# Altium schematic symbol library lib_peb_1.SchLib: 27 symbols
Pins are listed as number, name and electrical type; pins without a type are passive.

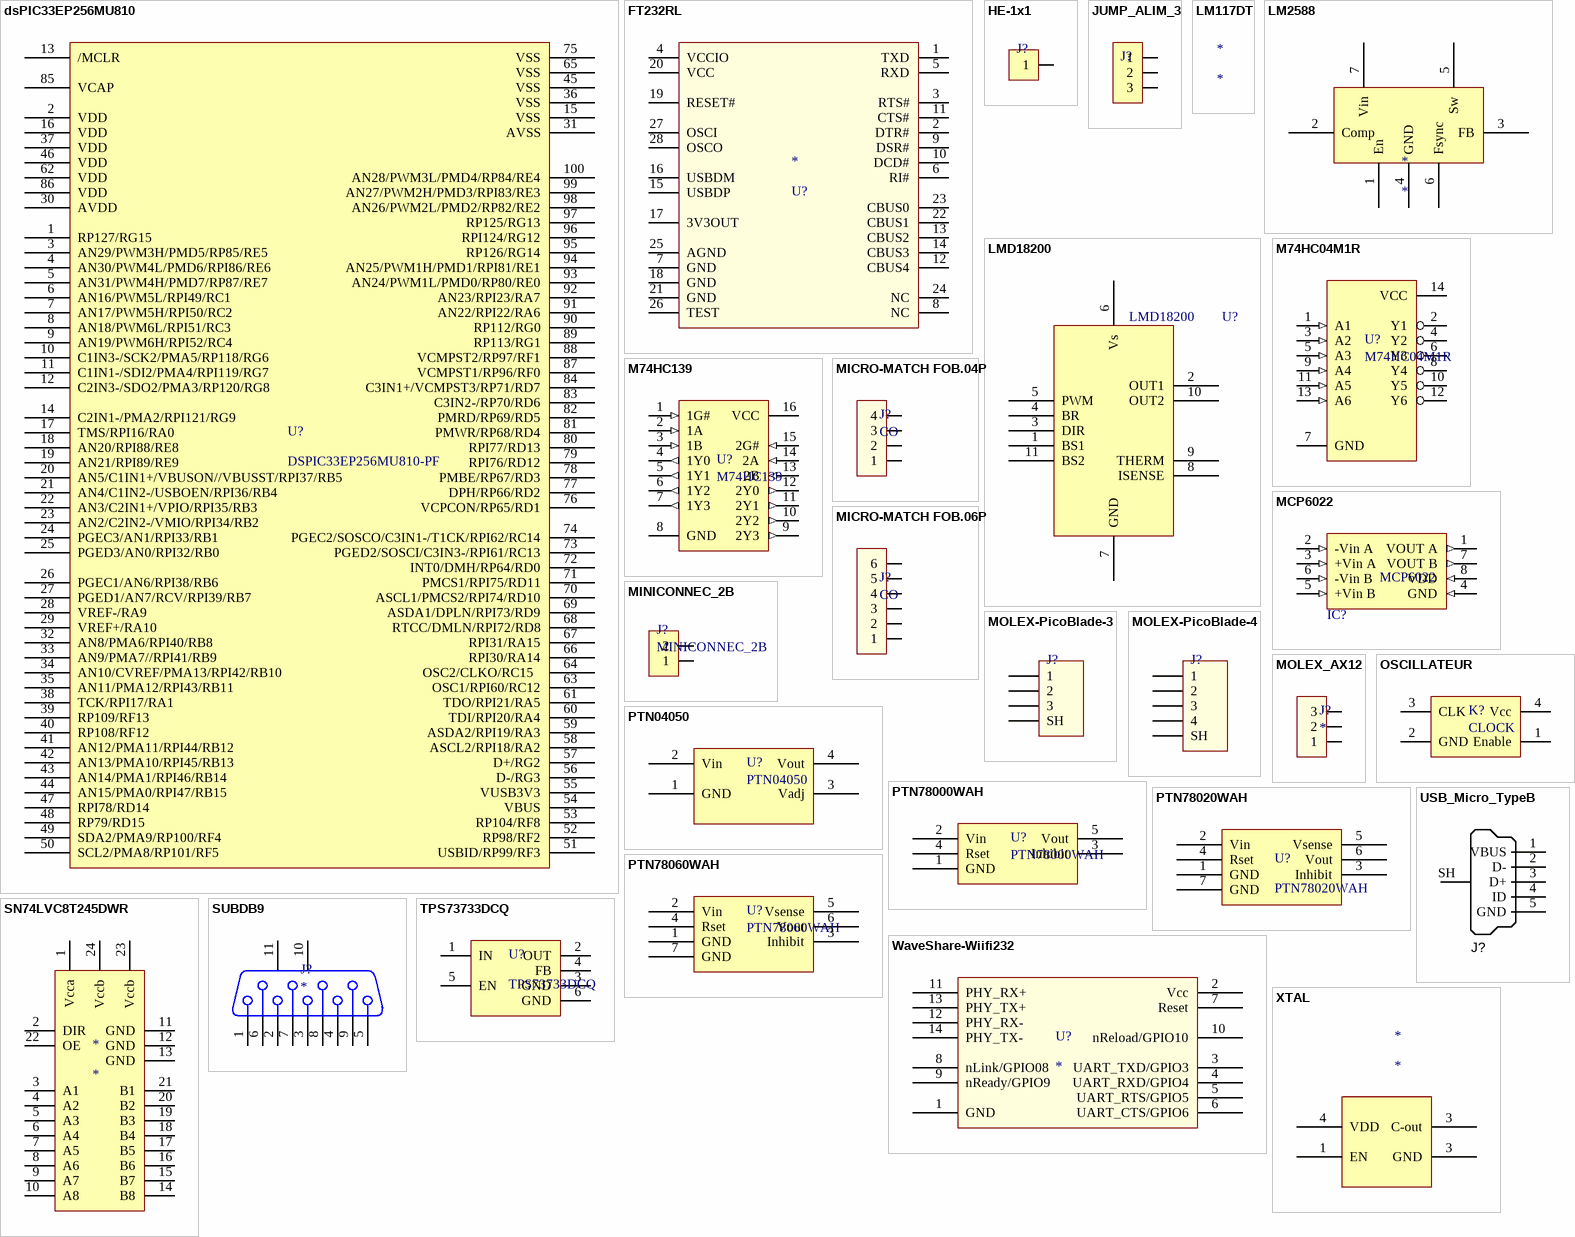
[diagram p0: symbols dsPIC33EP256MU810 to XTAL]

## dsPIC33EP256MU810
designator U?, comment DSPIC33EP256MU810-PF
PF = TQFP100_N
footprint TQFP100_N (100-Pin Thin Quad Flat Pack 0.5 mm Pitch, IPC Medium Density)
pins: 1 RP127/RG15, 2 VDD, 3 AN29/PWM3H/PMD5/RP85/RE5, 4 AN30/PWM4L/PMD6/RPI86/RE6, 5 AN31/PWM4H/PMD7/RP87/RE7, 6 AN16/PWM5L/RPI49/RC1, 7 AN17/PWM5H/RPI50/RC2, 8 AN18/PWM6L/RPI51/RC3, 9 AN19/PWM6H/RPI52/RC4, 10 C1IN3-/SCK2/PMA5/RP118/RG6, 11 C1IN1-/SDI2/PMA4/RPI119/RG7, 12 C2IN3-/SDO2/PMA3/RP120/RG8, 13 /MCLR, 14 C2IN1-/PMA2/RPI121/RG9, 15 VSS, 16 VDD, 17 TMS/RPI16/RA0, 18 AN20/RPI88/RE8, 19 AN21/RPI89/RE9, 20 AN5/C1IN1+/VBUSON//VBUSST/RPI37/RB5, 21 AN4/C1IN2-/USBOEN/RPI36/RB4, 22 AN3/C2IN1+/VPIO/RPI35/RB3, 23 AN2/C2IN2-/VMIO/RPI34/RB2, 24 PGEC3/AN1/RPI33/RB1, 25 PGED3/AN0/RPI32/RB0, 26 PGEC1/AN6/RPI38/RB6, 27 PGED1/AN7/RCV/RPI39/RB7, 28 VREF-/RA9, 29 VREF+/RA10, 30 AVDD, 31 AVSS, 32 AN8/PMA6/RPI40/RB8, 33 AN9/PMA7//RPI41/RB9, 34 AN10/CVREF/PMA13/RPI42/RB10, 35 AN11/PMA12/RPI43/RB11, 36 VSS, 37 VDD, 38 TCK/RPI17/RA1, 39 RP109/RF13, 40 RP108/RF12, 41 AN12/PMA11/RPI44/RB12, 42 AN13/PMA10/RPI45/RB13, 43 AN14/PMA1/RPI46/RB14, 44 AN15/PMA0/RPI47/RB15, 45 VSS, 46 VDD, 47 RPI78/RD14, 48 RP79/RD15, 49 SDA2/PMA9/RP100/RF4, 50 SCL2/PMA8/RP101/RF5, 51 USBID/RP99/RF3, 52 RP98/RF2, 53 RP104/RF8, 54 VBUS, 55 VUSB3V3, 56 D-/RG3, 57 D+/RG2, 58 ASCL2/RPI18/RA2, 59 ASDA2/RPI19/RA3, 60 TDI/RPI20/RA4, 61 TDO/RPI21/RA5, 62 VDD, 63 OSC1/RPI60/RC12, 64 OSC2/CLKO/RC15  , 65 VSS, 66 RPI30/RA14, 67 RPI31/RA15, 68 RTCC/DMLN/RPI72/RD8, 69 ASDA1/DPLN/RPI73/RD9, 70 ASCL1/PMCS2/RPI74/RD10, 71 PMCS1/RPI75/RD11, 72 INT0/DMH/RP64/RD0, 73 PGED2/SOSCI/C3IN3-/RPI61/RC13, 74 PGEC2/SOSCO/C3IN1-/T1CK/RPI62/RC14, 75 VSS, 76 VCPCON/RP65/RD1, 77 DPH/RP66/RD2, 78 PMBE/RP67/RD3, 79 RPI76/RD12, 80 RPI77/RD13, 81 PMWR/RP68/RD4, 82 PMRD/RP69/RD5, 83 C3IN2-/RP70/RD6, 84 C3IN1+/VCMPST3/RP71/RD7, 85 VCAP, 86 VDD, 87 VCMPST1/RP96/RF0, 88 VCMPST2/RP97/RF1, 89 RP113/RG1, 90 RP112/RG0, 91 AN22/RPI22/RA6, 92 AN23/RPI23/RA7, 93 AN24/PWM1L/PMD0/RP80/RE0, 94 AN25/PWM1H/PMD1/RPI81/RE1, 95 RP126/RG14, 96 RPI124/RG12, 97 RP125/RG13, 98 AN26/PWM2L/PMD2/RP82/RE2, 99 AN27/PWM2H/PMD3/RPI83/RE3, 100 AN28/PWM3L/PMD4/RP84/RE4

## FT232RL
designator *, comment U?
FTDI 232 RL
footprint SSOP28_L (SOP, 28-Leads, Body 10.2x5.3mm, Pitch 0.65mm, IPC High Density)
pins: 1 TXD, 2 DTR#, 3 RTS#, 4 VCCIO, 5 RXD, 6 RI#, 7 GND, 8 NC, 9 DSR#, 10 DCD#, 11 CTS#, 12 CBUS4, 13 CBUS2, 14 CBUS3, 15 USBDP, 16 USBDM, 17 3V3OUT, 18 GND, 19 RESET#, 20 VCC, 21 GND, 22 CBUS1, 23 CBUS0, 24 NC, 25 AGND, 26 TEST, 27 OSCI, 28 OSCO

## HE-1x1
designator J?  (value not drawn)
Connecteur
footprint HE-1x1 (Chip Resistor; Body 2.0 x 1.3 mm (LxW typ))
footprint HE-6x1_2mm -T
pins: 1

## JUMP_ALIM_3
designator J?  (value not drawn)
Connecteur
footprint HDR1X3 (Connector; Header; 3 Position)
footprint JUMP_3 (Chip Resistor; Body 2.0 x 1.3 mm (LxW typ))
pins: 1, 2, 3

## LM117DT
designator *

## LM2588
designator *
pins: 1 En, 2 Comp, 3 FB, 4 GND, 5 Sw, 6 Fsync, 7 Vin

## LMD18200
designator U?
Pont-H
footprint TA11B (TO, Thru-Hole, Vertical, Heatsink Mounted; 11 Bent Staggered Leads; Pitch 1.7 mm)
pins: 1 BS1, 2 OUT1, 3 DIR, 4 BR, 5 PWM, 6 Vs (power), 7 GND (power), 8 ISENSE, 9 THERM, 10 OUT2, 11 BS2

## M74HC04M1R
designator U?
Logique
footprint SO14_N (SOIC, 14-Leads, Body 8.7x3.9mm, Pitch 1.27mm, IPC Medium Density)
pins: 1 A1 (in), 2 Y1 (hiz), 3 A2 (in), 4 Y2 (hiz), 5 A3 (in), 6 Y3 (hiz), 7 GND (power), 8 Y4 (hiz), 9 A4 (in), 10 Y5 (hiz), 11 A5 (in), 12 Y6 (hiz), 13 A6 (in), 14 VCC (power)

## M74HC139
designator U?
Logique
footprint WSO16_N (SOIC, 16-Leads, Body 10.3x7.5mm, Pitch 1.27mm, IPC Medium Density)
pins: 1 1G# (in), 2 1A (in), 3 1B (in), 4 1Y0 (out), 5 1Y1 (out), 6 1Y2 (out), 7 1Y3 (out), 8 GND (power), 9 2Y3 (out), 10 2Y2 (out), 11 2Y1 (out), 12 2Y0 (out), 13 2B (in), 14 2A (in), 15 2G# (in), 16 VCC (power)

## MCP6022
designator IC?
AOP Microchip
footprint SOIC 4B (TSOP, 8-Leads, Body 3x3mm, Pitch 0.65mm, IPC Low Density)
pins: 1 VOUT A (out), 2 -Vin A (in), 3 +Vin A (in), 4 GND (in), 5 +Vin B (in), 6 -Vin B (in), 7 VOUT B (out), 8 VDD (in)

## MICRO-MATCH FOB.04P
designator J?, comment CO
Connecteur
footprint MICRO-MATCH FOB.04P
pins: 1, 2, 3, 4

## MICRO-MATCH FOB.06P
designator J?, comment CO
Connecteur
footprint MICRO-MATCH FOB.06P
pins: 1, 2, 3, 4, 5, 6

## MINICONNEC_2B
designator J?
Connecteur
footprint MINICONNEC_C
footprint MINICONNEC_D
pins: 1, 2

## MOLEX-PicoBlade-3
designator J?  (value not drawn)
Connecteur
footprint MOLEX-PicoBlade-3 (MOLEX 53398-0371)
pins: 1, 2, 3, 4 SH

## MOLEX-PicoBlade-4
designator J?  (value not drawn)
Connecteur
footprint MOLEX-PicoBlade-4 (MOLEX 53398-0471)
pins: 1, 2, 3, 4, 5 SH

## MOLEX_AX12
designator J?
Connecteur
footprint MOLEX_AX12
pins: 1, 2, 3

## OSCILLATEUR
designator K?, comment CLOCK
Oscillateur quartz
footprint IQXO-70
pins: 1 Enable, 2 GND, 3 CLK, 4 Vcc

## PTN04050
designator U?
BOOST
footprint PTN04050
pins: 1 GND, 2 Vin, 3 Vadj, 4 Vout

## PTN78000WAH
designator U?
DC/DC
footprint PTN78000WAH
pins: 1 GND, 2 Vin, 3 Inhibit, 4 Rset, 5 Vout

## PTN78020WAH
designator U?
DC/DC
footprint PTN78020WAH
pins: 1 GND, 2 Vin, 3 Inhibit, 4 Rset, 5 Vsense, 6 Vout, 7 GND

## PTN78060WAH
designator U?
DC/DC
footprint PTN78060WAH
pins: 1 GND, 2 Vin, 3 Inhibit, 4 Rset, 5 Vsense, 6 Vout, 7 GND

## SN74LVC8T245DWR
designator *
footprint DW024_N (24-Pin Plastic Small Outline Integrated Circuit 1.27 mm Pitch, IPC Medium Density)
pins: 1 Vcca, 2 DIR, 3 A1, 4 A2, 5 A3, 6 A4, 7 A5, 8 A6, 9 A7, 10 A8, 11 GND, 12 GND, 13 GND, 14 B8, 15 B7, 16 B6, 17 B5, 18 B4, 19 B3, 20 B2, 21 B1, 22 OE, 23 Vccb, 24 Vccb

## SUBDB9
designator J?
Connecteur
footprint SUB-D 9/F/C
pins: 1, 2, 3, 4, 5, 6, 7, 8, 9, 10 MH1, 11 MH2

## TPS73733DCQ
designator U?
LDO 3.3V
footprint SOT223-6
pins: 1 IN, 2 OUT, 3 GND, 4 FB, 5 EN, 6 GND

## USB_Micro_TypeB
designator J?, comment USB Micro Type B  (value not drawn)
Connector SMD USB Micro Type B middle mount; Manufacturer 1: Molex Inc; SCDType: undef; Package / Case: SMD; Supplier 1: Digi-Key; Supplier Part Number 1: WM17142CT-ND
footprint USB_Micro-B_Molex_SMD
pins: 1 VBUS, 2 D-, 3 D+, 4 ID, 5 GND, SH Shell

## WaveShare-Wiifi232
designator U?
WaveShare - Wifi232
footprint WAVESHARE-WIFI232
pins: 1 GND, 2 Vcc, 3 UART_TXD/GPIO3, 4 UART_RXD/GPIO4, 5 UART_RTS/GPIO5, 6 UART_CTS/GPIO6, 7 Reset, 8 nLink/GPIO08, 9 nReady/GPIO9, 10 nReload/GPIO10, 11 PHY_RX+, 12 PHY_RX-, 13 PHY_TX+, 14 PHY_TX-

## XTAL
designator *
pins: 1 EN, 3 C-out, 3 GND, 4 VDD